# EAGLE library part RJHSE-5381 (library KVB-connectors)
Jack Modular Connector 8p8c (RJ45, Ethernet) 90° Angle (Right) Shielded EMI Finger
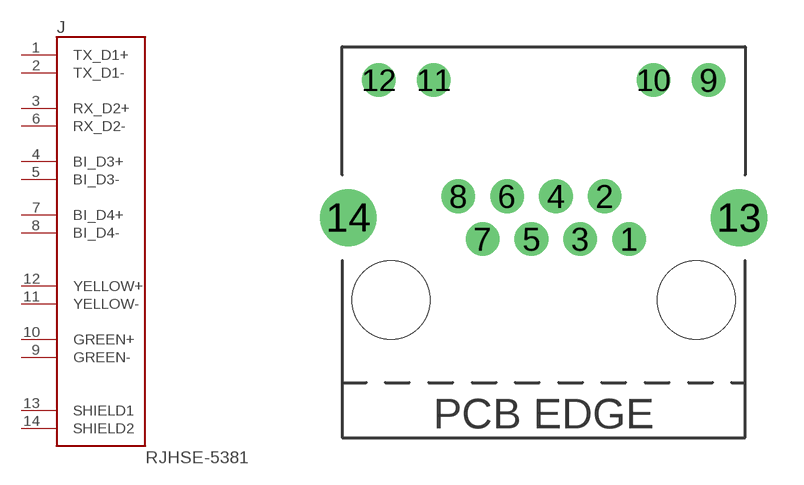
[diagram p6: symbol with the pads of RJHSE-5381; footprint RJHSE-5381]

Designator prefix J

## RJHSE-5381 (MAN-PART_NUM: RJHSE-5381; MANUFACTURER: Amphenol)  [RJHSE-5381]
1  TX_D1+
2  TX_D1-
3  RX_D2+
4  BI_D3+
5  BI_D3-
6  RX_D2-
7  BI_D4+
8  BI_D4-
9  GREEN-
10  GREEN+
11  YELLOW-
12  YELLOW+
13  SHIELD1
14  SHIELD2

## Footprint RJHSE-5381 (pad centres in mm)
drill 0.889: 1 3.556,5.969; 2 2.54,7.747; 3 1.524,5.969; 4 0.508,7.747; 5 -0.508,5.969; 6 -1.524,7.747; 7 -2.54,5.969; 8 -3.556,7.747; 9 6.858,12.573; 10 4.572,12.573; 11 -4.572,12.573; 12 -6.858,12.573
drill 1.575: 13 8.128,6.858; 14 -8.128,6.858
hole 3.251 at 6.35,3.429
hole 3.251 at -6.35,3.429